# Altium footprint library C0201C470J8GACTU.PcbLib: 3 footprints
Each footprint in its own frame and in the unit in brackets; x right, y up, seen from the top. Pads: shape width x height; smd on the part's side, far side on the other; paste and mask are expansions set on the pad; w line width, h text height; cw(c..) or ccw(c..) is an arc to the next point about the centre after c.
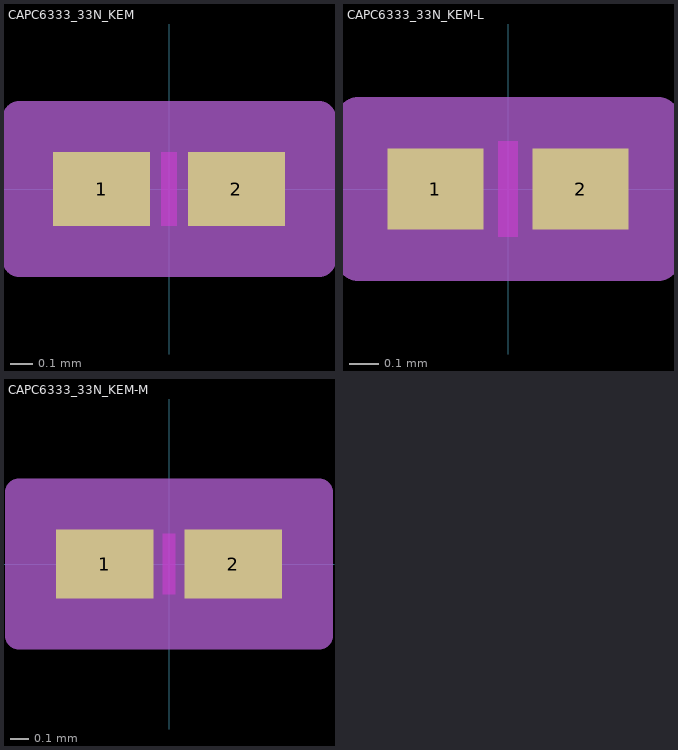
[diagram p0: the footprints below, top view; thin cyan lines are the x and y axes]

## CAPC6333_33N_KEM [mm]
pads (2):
  rect 0.433x0.33 smd paste+0 mask+0: 1(-0.302,0) 2(0.302,0)
Top Layer keep-out:
  region: -0.034,-0.114 -0.034,0.114 0.034,0.114 0.034,-0.114
Keep-Out Layer:
  region: -0.034,-0.165 -0.034,0.165 0.034,0.165 0.034,-0.165
Mechanical 13:
  lines w0.025: -0.315,-0.165 -0.315,0.165 ; -0.315,-0.165 -0.115,-0.165 -0.115,0.165 -0.315,0.165 ; -0.315,-0.165 0.315,-0.165 ; -0.315,-0.165 -0.315,0.165 ; -0.315,0.165 0.315,0.165 ; 0.315,-0.165 0.115,-0.165 0.115,0.165 0.315,0.165 ; 0.315,-0.165 0.315,0.165 ; 0.315,-0.165 0.315,0.165
Mechanical 15:
  region: 0.671,-0.317 -0.671,-0.317 -0.671,0.317 0.671,0.317
  lines w0.152: -0.671,-0.317 -0.671,0.317 0.671,0.317 0.671,-0.317 -0.671,-0.317
3D body "CAPC6333_33N_KEM.step": height 0.33, standoff 0, extent -0.315,-0.165 0.315,0.165

## CAPC6333_33N_KEM-L [mm]
pads (2):
  rect 0.332x0.279 smd paste+0 mask+0: 1(-0.251,0) 2(0.251,0)
Top Layer keep-out:
  region: -0.034,-0.114 -0.034,0.114 0.034,0.114 0.034,-0.114
Keep-Out Layer:
  region: -0.034,-0.165 -0.034,0.165 0.034,0.165 0.034,-0.165
Mechanical 13:
  lines w0.025: -0.315,-0.165 -0.315,0.165 ; -0.315,-0.165 -0.115,-0.165 -0.115,0.165 -0.315,0.165 ; -0.315,-0.165 0.315,-0.165 ; -0.315,-0.165 -0.315,0.165 ; -0.315,0.165 0.315,0.165 ; 0.315,-0.165 0.115,-0.165 0.115,0.165 0.315,0.165 ; 0.315,-0.165 0.315,0.165 ; 0.315,-0.165 0.315,0.165
Mechanical 15:
  region: 0.518,-0.241 -0.518,-0.241 -0.518,0.241 0.518,0.241
  lines w0.152: -0.518,-0.241 -0.518,0.241 0.518,0.241 0.518,-0.241 -0.518,-0.241
3D body "CAPC6333_33N_KEM.step": height 0.33, standoff 0, extent -0.315,-0.165 0.315,0.165

## CAPC6333_33N_KEM-M [mm]
pads (2):
  rect 0.535x0.381 smd paste+0 mask+0: 1(-0.352,0) 2(0.352,0)
Top Layer keep-out:
  region: -0.034,-0.114 -0.034,0.114 0.034,0.114 0.034,-0.114
Keep-Out Layer:
  region: -0.034,-0.165 -0.034,0.165 0.034,0.165 0.034,-0.165
Mechanical 13:
  lines w0.025: -0.315,-0.165 -0.315,0.165 ; -0.315,-0.165 -0.115,-0.165 -0.115,0.165 -0.315,0.165 ; -0.315,-0.165 0.315,-0.165 ; -0.315,-0.165 -0.315,0.165 ; -0.315,0.165 0.315,0.165 ; 0.315,-0.165 0.115,-0.165 0.115,0.165 0.315,0.165 ; 0.315,-0.165 0.315,0.165 ; 0.315,-0.165 0.315,0.165
Mechanical 15:
  region: 0.823,-0.394 -0.823,-0.394 -0.823,0.394 0.823,0.394
  lines w0.152: -0.823,-0.394 -0.823,0.394 0.823,0.394 0.823,-0.394 -0.823,-0.394
3D body "CAPC6333_33N_KEM.step": height 0.33, standoff 0, extent -0.315,-0.165 0.315,0.165